# EAGLE library part MPU-6050 (library Invensense)
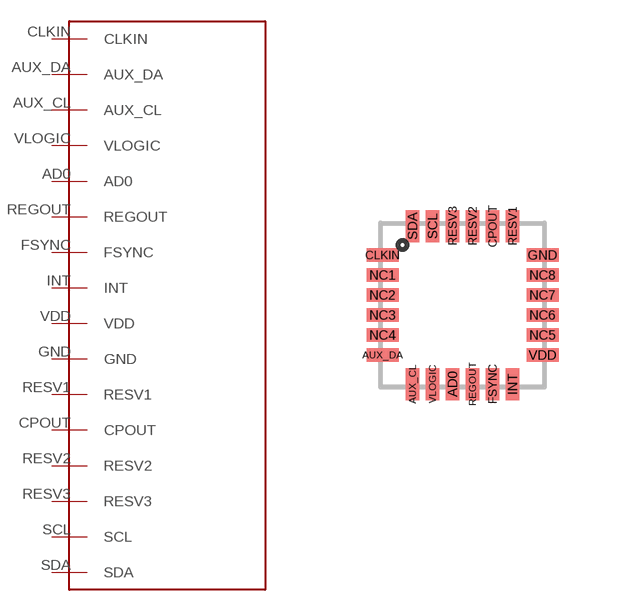
[diagram p0: symbol with the pads of MPU-6050; footprint MPU-6050]

Designator prefix IC

## MPU-6050  [MPU-6050]
AD0  AD0
AUX_CL  AUX_CL
AUX_DA  AUX_DA
CLKIN  CLKIN
CPOUT  CPOUT
FSYNC  FSYNC
GND  GND
INT  INT
REGOUT  REGOUT
RESV1  RESV1
RESV2  RESV2
RESV3  RESV3
SCL  SCL
SDA  SDA
VDD  VDD
VLOGIC  VLOGIC

## Footprint MPU-6050 (pad centres in mm)
Invensense MPU-6050 Datasheet: http://www.invensense.com/mems/gyro/documents/PS-MPU-6000A-00v3.4.pdf Nate Derry 1/25/15
smd 0.34 x 0.8: AD0 -0.25,-1.975; AUX_CL -1.25,-1.975; CPOUT 0.75,1.975; FSYNC 0.75,-1.975; INT 1.25,-1.975; REGOUT 0.25,-1.975; RESV1 1.25,1.975; RESV2 0.25,1.975; RESV3 -0.25,1.975; SCL -0.75,1.975; SDA -1.25,1.975; VLOGIC -0.75,-1.975
smd 0.8 x 0.34: AUX_DA -2,-1.25; CLKIN -2,1.25; GND 2,1.25; NC1 -2,0.75; NC2 -2,0.25; NC3 -2,-0.25; NC4 -2,-0.75; NC5 2,-0.75; NC6 2,-0.25; NC7 2,0.25; NC8 2,0.75; VDD 2,-1.25